# EAGLE library part ESP-WROOM-02_(4MB) (library ESP-WROOM-02_(4MB))
WiFi Modules (802.11) SMD Module, ESP8266EX, 32Mbits SPI flash, UART Mode Source: Datasheet
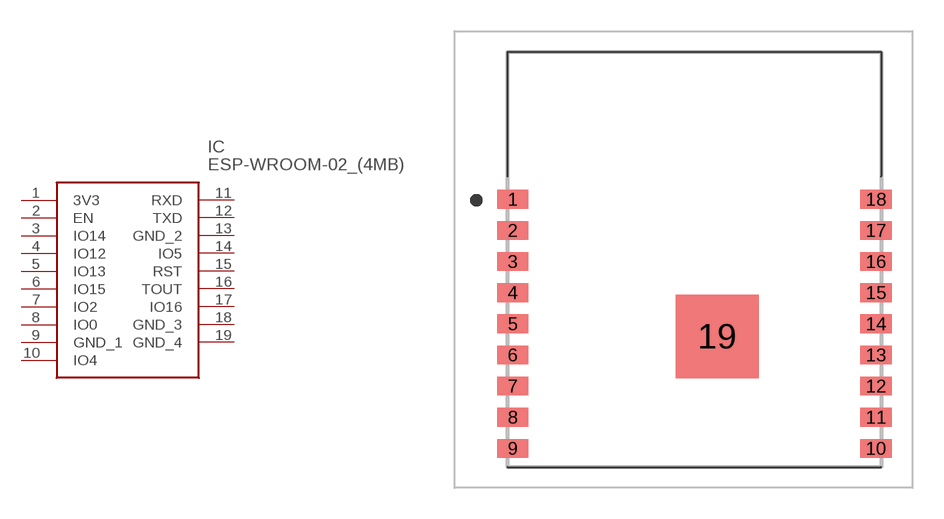
[diagram p0: symbol with the pads of ESPWROOM024MB; footprint ESPWROOM024MB]

Designator prefix IC

## ESP-WROOM-02_(4MB) (Description: WiFi Modules (802.11) SMD Module, ESP8266EX, 32Mbits SPI flash, UART Mode; Height: 2.9mm; Manufacturer_Name: Espressif Systems; Manufacturer_Part_Number: ESP-WROOM-02 (4MB))  [ESPWROOM024MB]
1  3V3
2  EN
3  IO14
4  IO12
5  IO13
6  IO15
7  IO2
8  IO0
9  GND_1
10  IO4
11  RXD
12  TXD
13  GND_2
14  IO5
15  RST
16  TOUT
17  IO16
18  GND_3
19  GND_4

## Footprint ESPWROOM024MB (pad centres in mm)
ESP-WROOM-02 (4MB)-2
smd 1.5 x 0.9: 1 -8.75,2.9; 2 -8.75,1.4; 3 -8.75,-0.1; 4 -8.75,-1.6; 5 -8.75,-3.1; 6 -8.75,-4.6; 7 -8.75,-6.1; 8 -8.75,-7.6; 9 -8.75,-9.1; 10 8.75,-9.1; 11 8.75,-7.6; 12 8.75,-6.1; 13 8.75,-4.6; 14 8.75,-3.1; 15 8.75,-1.6; 16 8.75,-0.1; 17 8.75,1.4; 18 8.75,2.9
smd 4 x 4: 19 1.1,-3.71